# EAGLE library part *02 (library digital)
74xx02: Quad 2-input NOR gate
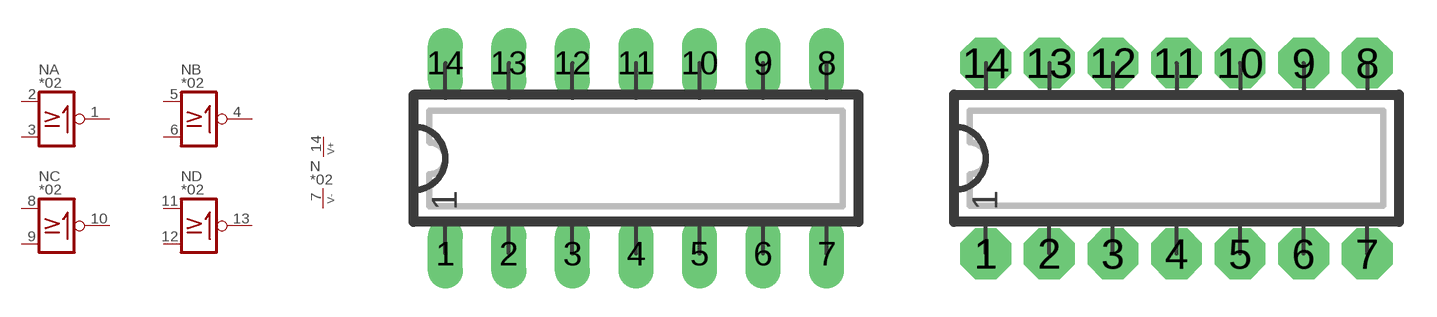
[diagram p42: symbol with the pads of DIP14L; footprints DIP14L, DIP14N]

Designator prefix N; gates A=NOR2 B=NOR2 C=NOR2 D=NOR2 P=V+-

## 7402, 74AC02, 74ACT02, 74ALS02, 74HC02, 74HCT02, 74LS02, 74S02  [DIP14L]
1  A:O  out
2  A:I1  in
3  A:I2  in
4  B:O  out
5  B:I1  in
6  B:I2  in
7  P:V-  pwr
8  C:I1  in
9  C:I2  in
10  C:O  out
11  D:I1  in
12  D:I2  in
13  D:O  out
14  P:V+  pwr

## 7402L, 74AC02L, 74ACT02L, 74ALS02L, 74HC02L, 74HCT02L, 74LS02L, 74S02L  [DIP14L]
Pads as for DIP14L

## 7402N, 74AC02N, 74ACT02N, 74ALS02N, 74HC02N, 74HCT02N, 74LS02N, 74S02N  [DIP14N]
Pads as for DIP14L

## 7402R, 74AC02R, 74ACT02R, 74ALS02R, 74HC02R, 74HCT02R, 74LS02R, 74S02R  [DIP14R]
Pads as for DIP14L

## 74AC02S, 74ACT02S, 74AHC02S, 74AHCT02S, 74HC02S, 74HCT02S  [SO14]
Pads as for DIP14L

## Footprint DIP14L (pad centres in mm)
DIP-14, long pads Standard IC package, 14 pins
drill 0.813 pad 1.397 long: 1 0,0; 2 2.54,0; 3 5.08,0; 4 7.62,0; 5 10.16,0; 6 12.7,0; 7 15.24,0; 8 15.24,7.62; 9 12.7,7.62; 10 10.16,7.62; 11 7.62,7.62; 12 5.08,7.62; 13 2.54,7.62; 14 0,7.62

## Footprint DIP14N (pad centres in mm)
DIP-14 Standard IC package, 14 pins
drill 0.813 pad 2.032 octagon: 1 0,0; 2 2.54,0; 3 5.08,0; 4 7.62,0; 5 10.16,0; 6 12.7,0; 7 15.24,0; 8 15.24,7.62; 9 12.7,7.62; 10 10.16,7.62; 11 7.62,7.62; 12 5.08,7.62; 13 2.54,7.62; 14 0,7.62

## Footprint DIP14R (pad centres in mm)
DIP-14, reduced pads Standard IC package, 14 pins
drill 0.813 pad 1.397 square: 1 0,0; 2 2.54,0; 3 5.08,0; 4 7.62,0; 5 10.16,0; 6 12.7,0; 7 15.24,0; 8 15.24,7.62; 9 12.7,7.62; 10 10.16,7.62; 11 7.62,7.62; 12 5.08,7.62; 13 2.54,7.62; 14 0,7.62

## Footprint SO14 (pad centres in mm)
SO-14, SMD SOIC IC package, 14 pins
smd 0.635 x 1.778: 1 -3.81,-2.857; 2 -2.54,-2.857; 3 -1.27,-2.857; 4 0,-2.857; 5 1.27,-2.857; 6 2.54,-2.857; 7 3.81,-2.857; 8 3.81,2.857; 9 2.54,2.857; 10 1.27,2.857; 11 0,2.857; 12 -1.27,2.857; 13 -2.54,2.857; 14 -3.81,2.857